# EAGLE library part TPS54240 (library PowerIC)
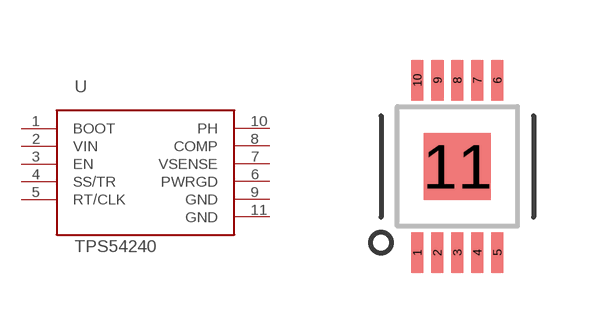
[diagram p2: symbol with the pads of 10-MSOP-EP; footprint 10-MSOP-EP]

Designator prefix U

## TPS54240  [10-MSOP-EP]
1  BOOT
2  VIN
3  EN
4  SS/TR
5  RT/CLK
6  PWRGD
7  VSENSE
8  COMP
9  GND
10  PH
11  GND

## Footprint 10-MSOP-EP (pad centres in mm)
smd 0.305 x 1.016: 1 -1.001,-2.159; 2 -0.5,-2.159; 3 0,-2.159; 4 0.5,-2.159; 5 1.001,-2.159; 6 1.001,2.159; 7 0.5,2.159; 8 0,2.159; 9 -0.495,2.159; 10 -1.001,2.159
smd 1.676 x 1.676: 11 0,0